# Altium footprint library PTS645SM43SMTR92LFS.PcbLib: 1 footprints
Each footprint in its own frame and in the unit in brackets; x right, y up, seen from the top. Pads: shape width x height; smd on the part's side, far side on the other; paste and mask are expansions set on the pad; w line width, h text height; cw(c..) or ccw(c..) is an arc to the next point about the centre after c.
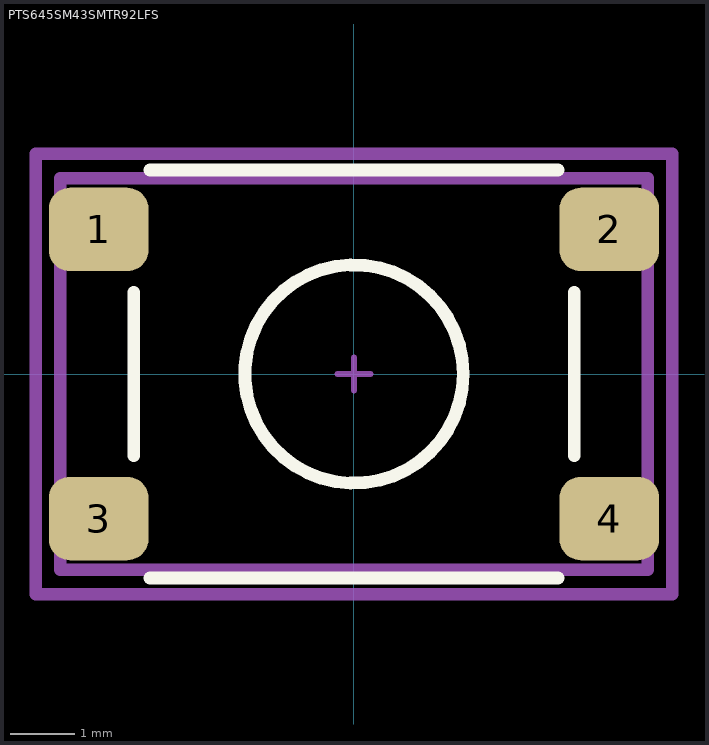
[diagram p0: the footprint, top view; thin cyan lines are the x and y axes]

## PTS645SM43SMTR92LFS [mm]
pads (4):
  rrect50% 1.55x1.3 smd mask+0.05: 1(-3.975,2.25) 2(3.975,2.25) 3(-3.975,-2.25) 4(3.975,-2.25)
Top Overlay:
  circle w0.2: c0,0 r1.7
  lines w0.2: -3.429,-1.27 -3.429,1.27 ; -3.175,-3.175 3.175,-3.175 ; -3.175,3.175 3.175,3.175 ; 3.429,-1.27 3.429,1.27
Top Assembly:
  lines w0.2: -4.572,-3.048 4.572,-3.048 4.572,3.048 -4.572,3.048 -4.572,-3.048
Top Courtyard:
  lines w0.1: -0.254,0 0,0 ; 0,-0.254 0,0 ; 0,0.254 0,0 ; 0.254,0 0,0
  lines w0.2: -4.953,-3.429 4.953,-3.429 4.953,3.429 -4.953,3.429 -4.953,-3.429
3D body "PTS645SM43SMTR92LFS.stp": height 4.3, standoff 0, extent -4.5,-3 4.5,3